# EAGLE library part DMMT5401 (library transistor-pnp)
TRANS DUAL PNP 150V 200MA SOT26
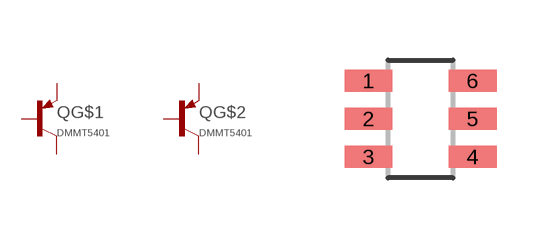
[diagram p2: symbol with the pads of SOT23-6; footprint SOT23-6]

Designator prefix Q; gates G$1=PNP G$2=PNP

## DMMT5401 (DIGIKEY: DMMT5401-FDICT-ND; P1I: o; VOLT: 150)  [SOT23-6]
1  G$1:C  pas
2  G$1:B  pas
3  G$2:B  pas
4  G$2:C  pas
5  G$2:E  pas
6  G$1:E  pas

## Footprint SOT23-6 (pad centres in mm)
SOT-23 - DBV 0.95 mm pitch
smd 1.2 x 0.55: 1 -1.427,0.95; 2 -1.427,0; 3 -1.427,-0.95; 4 1.173,-0.95; 5 1.173,0; 6 1.173,0.95